# Altium schematic symbol library U_LM3409MY.SchLib: 1 symbol
Pins are listed as number, name and electrical type; pins without a type are passive.

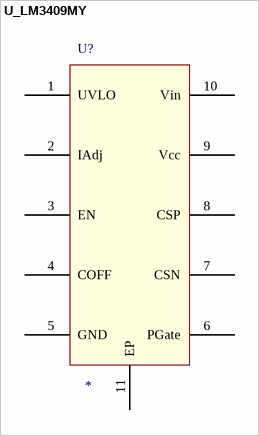
[diagram p0: symbol U_LM3409MY]

## U_LM3409MY
designator U?
pins: 1 UVLO, 2 IAdj, 3 EN, 4 COFF, 5 GND, 6 PGate, 7 CSN, 8 CSP, 9 Vcc, 10 Vin, 11 EP